# Altium schematic symbol library SOC.SchLib: 2 symbols
Pins are listed as number, name and electrical type; pins without a type are passive.

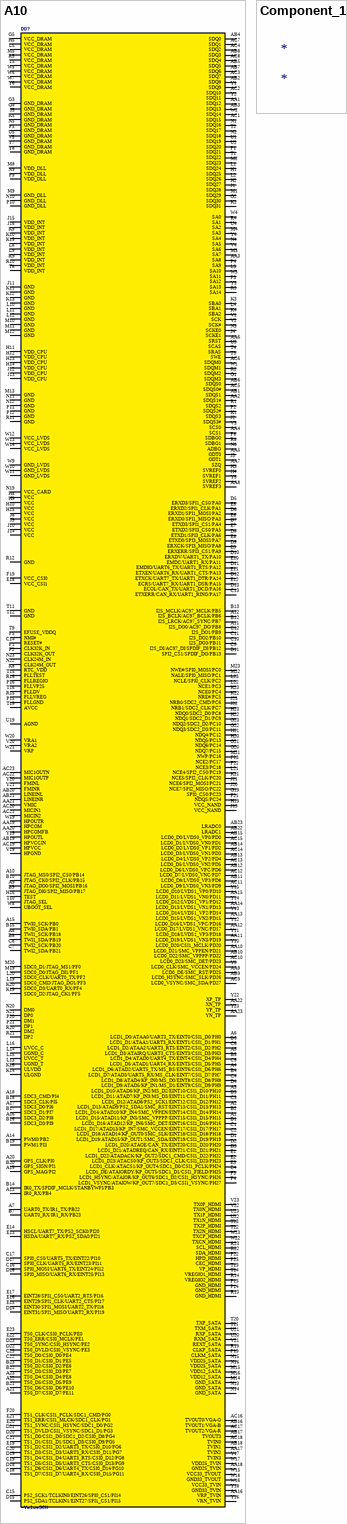
[diagram p0: symbols A10 to Component_1]

## A10
designator DD?
pins: A1 LCD1_D15/ATAD11/KP_IN5/SMC_VPPPP/EINT15/CSI1_D15/PH15, A2 LCD1_D13/ATAD9/PS2_SDA1/SMC_RST/EINT13/CSI1_D13/PH13, A3 LCD1_D10/ATAD6/KP_IN2/MS_D2/EINT10/CSI1_D10/PH10, A4 LCD1_D6/ATAD2/UART5_TX/MS_BS/EINT6/CSI1_D6/PH6, A5 LCD1_D3/ATAIRQ/UART3_CTS/EINT3/CSI1_D3/PH3, A6 LCD1_D0/ATAA0/UART3_TX/EINT0/CSI1_D0/PH0, A7 UART0_TX/IR1_TX/PB22, A8 TWI1_SCK/PB18, A9 JTAG_DO0/SPI2_MOSI/PB16, A10 JTAG_MS0/SPI2_CS0/PB14, A11 I2S_DO0/AC97_DO/PB8, A12 I2S_BCLK/AC97_BCLK/PB6, A13 IR0_RX/PB4, A14 PWM0/PB2, A15 TWI0_SCK/PB0, A16 SDC3_D2/PI8, A17 SDC3_D0/PI6, A18 SDC3_CMD/PI4, A19 GPS_MAG/PI2, A20 GPS_CLK/PI0, A21 TS0_D7/CSI0_D7/PE11, A22 TS0_D5/CSI0_D5/PE9, A23 TS0_D4/CSI0_D4/PE8, AA1 SDQ12, AA2 SDQS1#, AA3 SA8, AA4 SCS1, AA5 ODT0, AA6 SRST, AA7 SZQ, AA8 SVREF3, AA9 LCD0_DE/SMC_RST/PD25, AA10 LCD0_D21/SMC_VPPEN/PD21, AA11 LCD0_D19/LVDS1_VN3/PD19, AA12 LCD0_D17/LVDS1_VNC/PD17, AA13 LCD0_D15/LVDS1_VN2/PD15, AA14 LCD0_D13/LVDS1_VN1/PD13, AA15 LCD0_D11/LVDS1_VN0/PD11, AA16 VRP_TVIN, AA17 TVIN2, AA18 GND25_TVIN, AA19 HPCOM, AA20 HPCOMFB, AA21 VMIC, AA22 XN_TP, AA23 YN_TP, AB1 SDQS1, AB2 SDQ8, AB3 SDQ13, AB4 SDQ0, AB5 SDQ5, AB6 SDQS0, AB7 SDQ6, AB8 SDQ3, AB9 LCD0_HSYNC/SMC_SLK/PD26, AB10 LCD0_D22/SMC_VPPPP/PD22, AB11 LCD0_D8/LVDS0_VP3/PD8, AB12 LCD0_D6/LVDS0_VPC/PD6, AB13 LCD0_D4/LVDS0_VP2/PD4, AB14 LCD0_D2/LVDS0_VP1/PD2, AB15 LCD0_D0/LVDS0_VP0/PD0, AB16 TVOUT1/VGA-B, AB17 TVOUT3, AB18 TVIN1, AB19 HPVCCIN, AB20 LINEINL, AB21 LINEINR, AB22 LRADC1, AB23 LRADC0, AC1 SDQ15, AC2 SDQ10, AC3 SDQ7, AC4 SDQ2, AC5 SDQS0#, AC6 SDQM0, AC7 SDQ1, AC8 SDQ4, AC9 LCD0_VSYNC/SMC_SDA/PD27, AC10 LCD0_D23/SMC_DET/PD23, AC11 LCD0_D9/LVDS0_VN3/PD9, AC12 LCD0_D7/LVDS0_VNC/PD7, AC13 LCD0_D5/LVDS0_VN2/PD5, AC14 LCD0_D3/LVDS0_VN1/PD3, AC15 LCD0_D1/LVDS0_VN0/PD1, AC16 TVOUT0/VGA-G, AC17 TVOUT2/VGA-R, AC18 TVIN0, AC19 HPVCC, AC20 MICIN1, AC21 MICIN2, AC22 MIC1OUTP, AC23 MIC1OUTN, B1 LCD1_D16/ATAD12/KP_IN6/SMC_DET/EINT16/CSI1_D16/PH16, B2 LCD1_D14/ATAD10/KP_IN4/SMC_VPPEN/EINT14/CSI1_D14/PH14, B3 LCD1_D11/ATAD7/KP_IN3/MS_D3/EINT11/CSI1_D11/PH11, B4 LCD1_D7/ATAD3/UART5_RX/MS_CLK/EINT7/CSI1_D7/PH7, B5 LCD1_D4/ATAD0/UART4_TX/EINT4/CSI1_D4/PH4, B6 LCD1_D1/ATAA1/UART3_RX/EINT1/CSI1_D1/PH1, B7 UART0_RX/IR1_RX/PB23, B8 TWI1_SDA/PB19, B9 JTAG_DI0/SPI2_MISO/PB17, B10 JTAG_CK0/SPI2_CLK/PB15, B11 SPI2_CS1/SPDIF_DO/PB13, B12 I2S_LRCK/AC97_SYNC/PB7, B13 I2S_MCLK/AC97_MCLK/PB5, B14 IR0_TX/SPDIF_MCLK/STANBYWFI/PB3, B15 TWI0_SDA/PB1, B16 SDC3_D3/PI9, B17 SDC3_D1/PI7, B18 SDC3_CLK/PI5, B19 PWM1/PI3, B20 GPS_SIGN/PI1, B21 TS0_D6/CSI0_D6/PE10, B22 TS0_D3/CSI0_D3/PE7, B23 TS0_D2/CSI0_D2/PE6, C1 LCD1_D17/ATAD13/KP_IN7/SMC_VCCEN/EINT17/CSI1_D17/PH17, C2 LCD1_D18/ATAD14/KP_OUT0/SMC_SLK/EINT18/CSI1_D18/PH18, C3 LCD1_D12/ATAD8/PS2_SCK1/EINT12/CSI1_D12/PH12, C4 LCD1_D8/ATAD4/KP_IN0/MS_D0/EINT8/CSI1_D8/PH8, C5 LCD1_D5/ATAD1/UART4_RX/EINT5/CSI1_D5/PH5, C6 LCD1_D2/ATAA2/UART3_RTS/EINT2/CSI1_D2/PH2, C7 TWI2_SDA/PB21, C8 TWI2_SCK/PB20, C9 I2S_DI/AC97_DI/SPDIF_DI/PB12, C10 I2S_DO3/PB11, C11 I2S_DO2/PB10, C12 I2S_DO1/PB9, C13 ETXERR/CAN_RX/UART1_RING/PA17, C14 RESET#, C15 PS2_SCK1/TCLKIN0/EINT26/SPI0_CS1/PI14, C16 SPI0_MOSI/UART6_TX/EINT24/PI12, C17 SPI0_CS0/UART5_TX/EINT22/PI10, C18 TS1_D7/CSI1_D7/UART4_RX/CSI0_D15/PG11, C19 TS1_D5/CSI1_D5/UART3_CTS/CSI0_D13/PG9, C20 TS1_D3/CSI1_D3/UART3_RX/CSI0_D11/PG7, C21 TS1_D1/CSI1_D1/SDC1_D3/CSI0_D9/PG5, C22 TS0_D1/CSI0_D1/PE5, C23 TS0_D0/CSI0_D0/PE4, D1 LCD1_D19/ATAD15/KP_OUT1/SMC_SDA/EINT19/CSI1_D19/PH19, D2 LCD1_D20/ATAOE/CAN_TX/EINT20/CSI1_D20/PH20, D3 LCD1_D21/ATADREQ/CAN_RX/EINT21/CSI1_D21/PH21, D4 LCD1_D9/ATAD5/KP_IN1/MS_D1/EINT9/CSI1_D9/PH9, D5 ERXD3/SPI1_CS0/PA0, D6 ERXD1/SPI1_MOSI/PA2, D7 ETXD3/SPI1_CS1/PA4, D8 ETXD1/SPI3_CLK/PA6, D9 ERXCK/SPI3_MISO/PA8, D10 ERXDV/UART1_TX/PA10, D11 EMDIO/UART6_TX/UART1_RTS/PA12, D12 ETXCK/UART7_TX/UART1_DTR/PA14, D13 ECOL/CAN_TX/UART1_DCD/PA16, D14 EINT31/SPI1_MISO/UART2_RX/PI19, D15 PS2_SDA1/TCLKIN1/EINT27/SPI1_CS1/PI15, D16 SPI0_MISO/UART6_RX/EINT25/PI13, D17 SPI0_CLK/UART5_RX/EINT23/PI11, D18 TS1_D6/CSI1_D6/UART4_TX/CSI0_D14/PG10, D19 TS1_D4/CSI1_D4/UART3_RTS/CSI0_D12/PG8, D20 TS1_D0/CSI1_D0/SDC1_D2/CSI0_D8/PG4, D21 TS1_DVLD/CSI1_VSYNC/SDC1_D1/PG3, D22 TS0_DVLD/CSI0_VSYNC/PE3, D23 TS0_SYNC/CSI0_HSYNC/PE2, E1 LCD1_D22/ATADACK/KP_OUT2/SDC1_CMD/CSI1_D22/PH22, E2 LCD1_D23/ATACS0/KP_OUT3/SDC1_CLK/CSI1_D23/PH23, E3 LCD1_CLK/ATACS1/KP_OUT4/SDC1_D0/CSI1_PCLK/PH24, E4 LCD1_DE/ATAIORDY/KP_OUT5/SDC1_D1/CSI1_FIELD/PH25, E5 ERXD2/SPI1_CLK/PA1, E6 ERXD0/SPI1_MISO/PA3, E7 ETXD2/SPI3_CS0/PA5, E8 ETXD0/SPI3_MOSI/PA7, E9 ERXERR/SPI3_CS1/PA9, E10 EMDC/UART1_RX/PA11, E11 ETXEN/UART6_RX/UART1_CTS/PA13, E12 ECRS/UART7_RX/UART1_DSR/PA15, E13 HSDA/UART7_RX/PS2_SDA0/PI21, E14 HSCL/UART7_TX/PS2_SCK0/PI20, E15 EINT30/SPI1_MOSI/UART2_TX/PI18, E16 EINT29/SPI1_CLK/UART2_CTS/PI17, E17 EINT28/SPI1_CS0/UART2_RTS/PI16, E18 VCC_CSI1, E19 TS1_D2/CSI1_D2/UART3_TX/CSI0_D10/PG6, E20 TS1_SYNC/CSI1_HSYNC/SDC1_D0/PG2, E21 TS1_ERR/CSI1_MLCK/SDC1_CLK/PG1, E22 TS0_ERR/CSI0_MCLK/PE1, E23 TS0_CLK/CSI0_PCLK/PE0, F1 CLK32K_IN, F2 CLK32K_OUT, F3 LCD1_HSYNC/ATAIOR/KP_OUT6/SDC1_D2/CSI1_HSYNC/PH26, F4 LCD1_VSYNC/ATAIOW/KP_OUT7/SDC1_D3/CSI1_VSYNC/PH27, F5 NMI#, F19 VCC_CSI0, F20 TS1_CLK/CSI1_PCLK/SDC1_CMD/PG0, F21 NDQS/PC24, F22 NCE3/PC18, F23 NCE2/PC17, G1 SDQM3, G2 SDQ30, G3 GND_DRAM, G4 GND_DRAM, G5 VCC_DRAM, G19 SPI0_CS0/PC23, G20 NDQ7/PC15, G21 NDQ6/PC14, G22 NDQ3/SDC2_D3/PC11, G23 NDQ2/SDC2_D2/PC10, H1 SDQ25, H2 SDQ27, H3 SVREF0, H4 SVREF1, H5 VCC_DRAM, H8 VCC, H9 VCC, H10 VCC, H11 VDD_CPU, H12 VDD_CPU, H13 VDD_CPU, H14 VDD_CPU, H15 VCC, H16 TEST, H19 VCC_NAND, H20 NDQ5/PC13, H21 NDQ4/PC12, H22 NDQ1/SDC2_D1/PC9, H23 NDQ0/SDC2_D0/PC8, J1 SDQ28, J2 SDQS3#, J3 ODT1, J4 SCKE1, J5 GND_DRAM, J8 VCC, J9 VCC, J10 VCC, J11 GND, J12 VDD_CPU, J13 VDD_CPU, J14 VCC, J15 VDD_INT, J16 VDD_INT, J19 VCC_NAND, J20 NCE7/SPI2_MISO/PC22, J21 NCE6/SPI2_MOSI/PC21, J22 NRB1/SDC2_CLK/PC7, J23 NRB0/SDC2_CMD/PC6, K1 SDQS3, K2 SDQ31, K3 SBA0, K4 SBA2, K5 GND_DRAM, K8 RTC_VDD, K9 VDD_INT, K10 VDD_INT, K11 GND, K12 GND, K13 GND, K14 ULGND, K15 VDD_INT, K16 ULVDD, K19 SDC0_D2/JTAG_CK1/PF5, K20 SDC0_D3/UART0_RX/PF4, K21 NCE5/SPI2_CLK/PC20, K22 NRE#/PC5, K23 NCE0/PC4, L1 SDQ24, L2 SDQ26, L3 SA10, L4 SBA1, L5 VCC_DRAM, L8 VDD_INT, L9 VDD_INT, L10 GND, L11 GND, L12 GND, L13 UGND_T, L14 UGND_C, L15 UVCC_T, L16 UVCC_C, L19 SDC0_CMD/JTAG_DO1/PF3, L20 SDC0_CLK/UART0_TX/PF2, L21 NCE4/SPI2_CS0/PC19, L22 NCE1/PC3, L23 NCLE/SPI0_CLK/PC2, M1 SDQ29, M2 SDQ23, M3 SA7, M4 SA3, M5 VCC_DRAM, M8 VDD_DLL, M9 GND_DLL, M10 GND, M11 GND, M12 GND, M13 GND, M14 GND_SATA, M15 VDD12_SATA, M16 VDD12_SATA, M19 SDC0_D0/JTAG_DI1/PF1, M20 SDC0_D1/JTAG_MS1/PF0, M21 NWP/PC16, M22 NALE/SPI0_MISO/PC1, M23 NWE#/SPI0_MOSI/PC0, N1 SDQ16, N2 SDQ18, N3 SCKE0, N4 SA5, N5 GND_DRAM, N8 ADBG, N9 VDD_DLL, N10 GND_DLL, N11 GND, N12 GND, N13 GND_SATA, N14 GND_SATA, N15 VDD25_SATA, N16 VDD25_SATA, N19 VCC_CARD, N20 DM0, N21 DP0, N22 CLK24M_OUT, N23 CLK24M_IN, P1 SDQ21, P2 SDQS2#, P3 SA12, P4 SA9, P5 GND_DRAM, P8 SDBG0, P9 VDD_DLL, P10 GND_DLL, P11 GND, P12 GND, P13 GND_HDMI, P14 GND_HDMI, P15 PLLGND, P16 PLLVP25, P19 CLKM_SATA, P20 DM1, P21 DP1, P22 HPD_HDMI, P23 CEC_HDMI, R1 SDQS2, R2 SDQM2, R3 SA14, R4 SA1, R5 VCC_DRAM, R8 SDBG1, R9 VDD_INT, R10 VDD_INT, R11 GND, R12 GND, R13 GND_HDMI, R14 VREGIO2_HDMI, R15 PLLVREG, R16 PLLREGIO, R19 CLKP_SATA, R20 DM2, R21 DP2, R22 SDA_HDMI, R23 SCL_HDMI, T1 SDQ22, T2 SDQ17, T3 SWE, T4 SRAS, T5 VCC_DRAM, T8 VDD_INT, T9 EFUSE_VDDQ, T10 JTAG_SEL, T11 GND, T12 GND, T13 VP_HDMI, T14 VREGIO1_HDMI, T15 PLLTEST, T16 PLLDV, T19 AVCC, T20 TXP_SATA, T21 TXM_SATA, T22 TX2N_HDMI, T23 TX2P_HDMI, U1 SDQ19, U2 SDQ20, U3 SCAS, U4 SA2, U5 GND_DRAM, U19 AGND, U20 RXM_SATA, U21 RXP_SATA, U22 TX1N_HDMI, U23 TX1P_HDMI, V1 SCK, V2 SCK#, V3 SCS0, V4 SA6, V5 GND_DRAM, V19 HPGND, V20 VRA2, V21 REXT_SATA, V22 TX0N_HDMI, V23 TX0P_HDMI, W1 SDQM1, W2 SDQ14, W3 SA11, W4 SA0, W5 VCC_DRAM, W6 VCC_DRAM, W7 VCC_DRAM, W8 UBOOT_SEL, W9 GND_LVDS, W10 GND_LVDS, W11 GND_LVDS, W12 VCC_LVDS, W13 VCC_LVDS, W14 VCC_LVDS, W15 VCC33_TVOUT, W16 VCC33_TVIN, W17 VDD25_TVIN, W18 GND33_TVOUT, W19 HPOUTR, W20 VRA1, W21 VRP, W22 TXCN_HDMI, W23 TXCP_HDMI, Y1 SDQ9, Y2 SDQ11, Y3 SA13, Y4 SA4, Y5 SVREF2, Y6 VCC_DRAM, Y7 GND_DRAM, Y8 GND_DRAM, Y9 LCD0_CLK/SMC_VCCEN/PD24, Y10 LCD0_D20/CSI1_MCLK/PD20, Y11 LCD0_D18/LVDS1_VP3/PD18, Y12 LCD0_D16/LVDS1_VPC/PD16, Y13 LCD0_D14/LVDS1_VP2/PD14, Y14 LCD0_D12/LVDS1_VP1/PD12, Y15 LCD0_D10/LVDS1_VP0/PD10, Y16 VRN_TVIN, Y17 TVIN3, Y18 GND33_TVIN, Y19 HPOUTL, Y20 FMINL, Y21 FMINR, Y22 XP_TP, Y23 YP_TP

## Component_1
designator *